# Altium footprint library Pcb_Comunes_SMD.PcbLib: 20 footprints (part 1 of 2)
Each footprint in its own frame and in the unit in brackets; x right, y up, seen from the top. Pads: shape width x height; smd on the part's side, far side on the other; paste and mask are expansions set on the pad; w line width, h text height; cw(c..) or ccw(c..) is an arc to the next point about the centre after c.
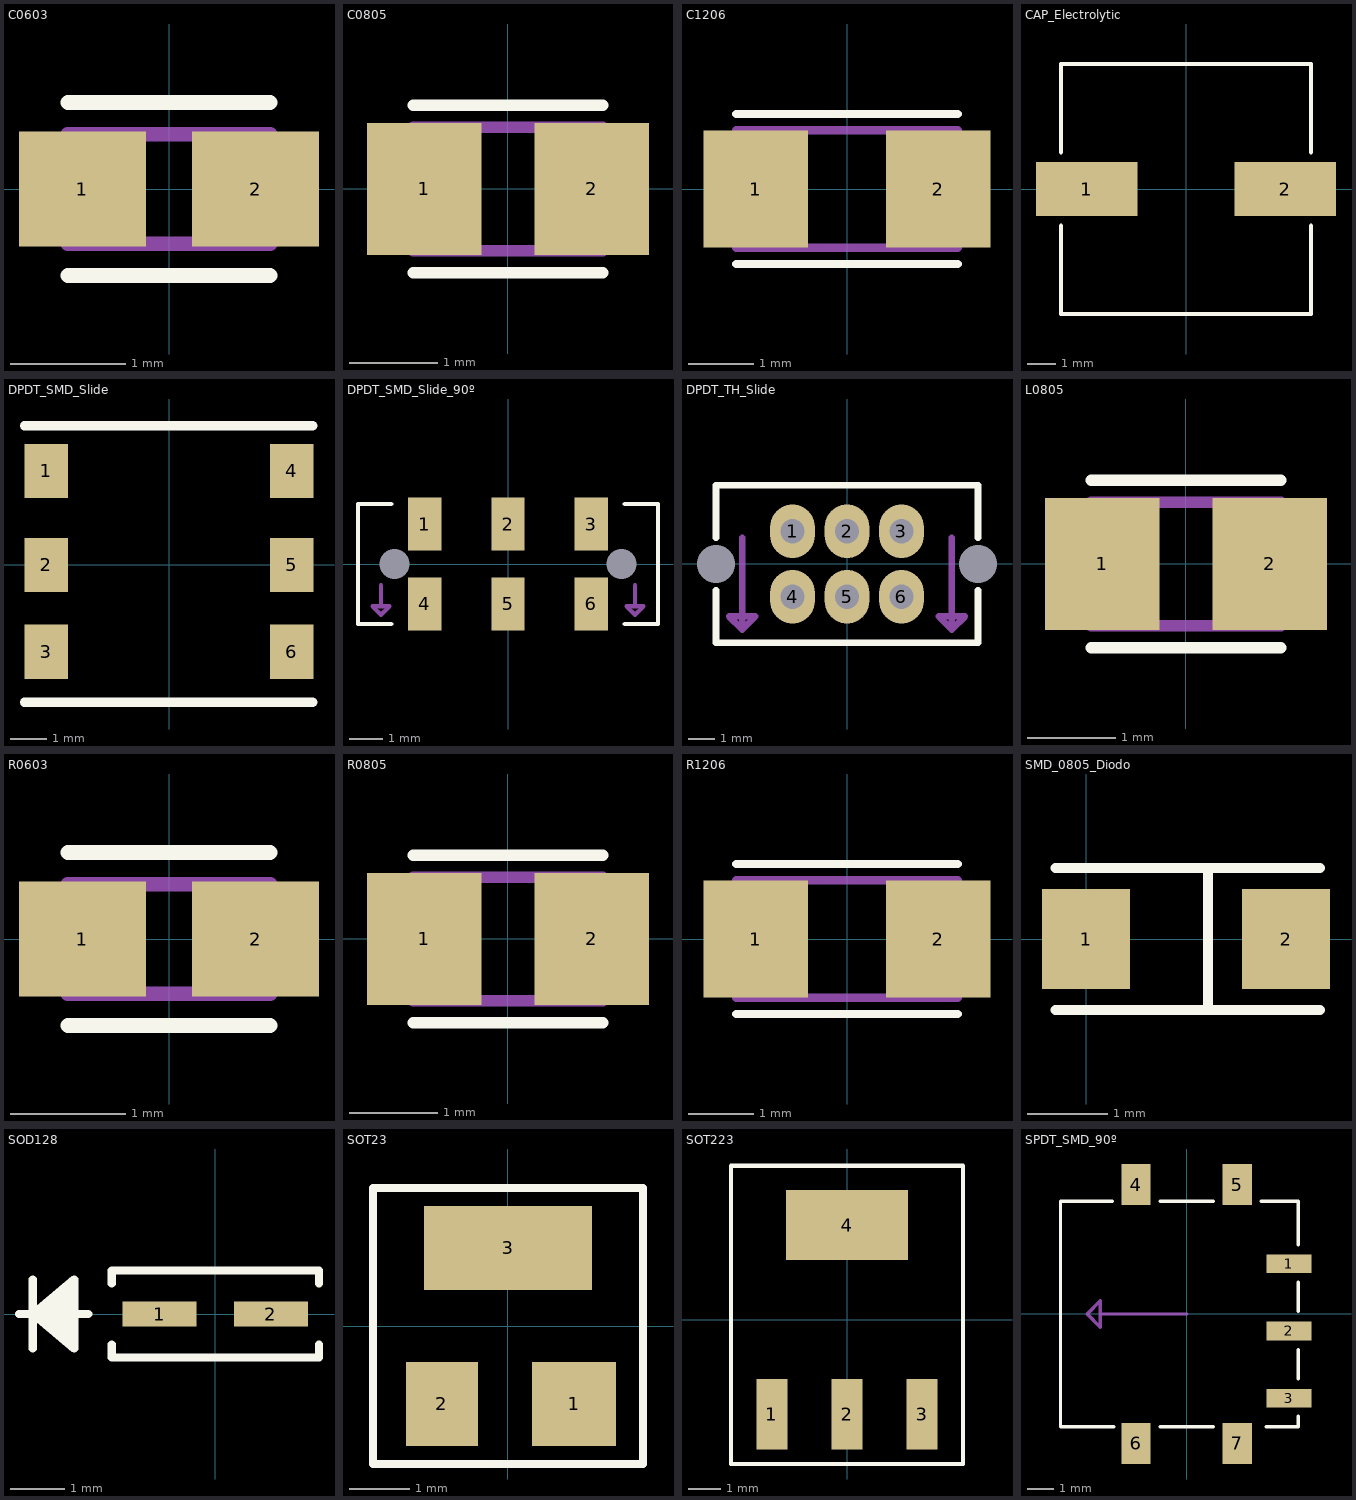
[diagram p0: the footprints below, top view; thin cyan lines are the x and y axes]

## C0603 [mm] "Capacitor SMD 0603"
height 0.85
pads (2):
  rect 1.1x1 smd: 1(-0.75,0) 2(0.75,0)
Top Overlay:
  lines w0.127: -0.875,-0.75 0.875,-0.75 ; -0.875,0.75 0.875,0.75
Mechanical 13:
  lines w0.127: -0.875,-0.475 0.875,-0.475 0.875,0.475 -0.875,0.475 -0.875,-0.475
3D body "C0603.step": height 0.83, standoff -0.03, extent -0.8,-0.43 0.8,0.43

## C0805 [mm] "Capacitor SMD 0805"
height 1.1
pads (2):
  rect 1.3x1.5 smd: 1(-0.95,0) 2(0.95,0)
Top Overlay:
  lines w0.127: -1.075,-0.95 1.075,-0.95 ; -1.075,0.95 1.075,0.95
Mechanical 13:
  lines w0.127: -1.075,0.7 -1.075,-0.7 1.075,-0.7 1.075,0.7 -1.075,0.7
3D body "C0805.step": height 0.8, standoff 0, extent -1,-0.625 1,0.625

## C1206 [mm] "Capacitor SMD 1206"
height 1.35
pads (2):
  rect 1.6x1.8 smd: 1(-1.4,0) 2(1.4,0)
Top Overlay:
  lines w0.127: -1.7,-1.15 1.7,-1.15 ; -1.7,1.15 1.7,1.15
Mechanical 13:
  lines w0.127: -1.7,-0.9 -1.7,0.9 1.7,0.9 1.7,-0.9 -1.7,-0.9
3D body "C1206.step": height 1.53, standoff -0.03, extent -1.6,-0.83 1.6,0.83

## CAP_Electrolytic [mil]
pads (2):
  rect 140x75 smd paste+0 mask+0: 1(-137,0) 2(137,0)
Top Overlay:
  lines w6: -172.5,-50.6 -172.5,-172.5 172.5,-172.5 172.5,-50.6 ; -172.5,50.6 -172.5,172.5 172.5,172.5 172.5,50.6

## DPDT_SMD_Slide [mm]
pads (6):
  rect 1.2x1.5 smd: 1(-3.4,2.6) 2(-3.4,0) 3(-3.4,-2.4) 4(3.4,2.6) 5(3.4,0) 6(3.4,-2.4)
Top Overlay:
  lines w0.254: -4,-3.8 3.975,-3.8 ; -4,3.85 3.975,3.85

## DPDT_SMD_Slide_90º [mm]
pads (8):
  rect 1x1.6 smd: 1(-2.5,1.2) 2(0,1.2) 3(2.5,1.2) 4(-2.5,-1.2) 5(0,-1.2) 6(2.5,-1.2)
  round 0 hole 0.9 unplated: 7(-3.4,0) 8(3.4,0)
Top Overlay:
  lines w0.127: -3.5,-1.8 -4.5,-1.8 -4.5,0 -4.5,1.8 -3.5,1.8 ; 3.5,-1.8 4.5,-1.8 4.5,0 4.5,1.8 3.5,1.8
Mechanical 16:
  lines w0.127: -3.81,-0.635 -3.81,-1.27 -4.064,-1.27 ; 3.81,-0.635 3.81,-1.27 3.556,-1.27 ; -4.064,-1.27 -3.556,-1.27 -3.81,-1.524 -4.064,-1.27 ; 3.556,-1.27 3.81,-1.524 4.064,-1.27 3.556,-1.27

## DPDT_TH_Slide [mm]
pads (8):
  oval 1.7x2.05 hole 0.93: 1(-2.08,1.25) 2(0,1.25) 3(2.08,1.25) 4(-2.08,-1.25) 5(0,-1.25) 6(2.08,-1.25)
  round 0 hole 1.45 unplated: 7(-5,0) 8(5,0)
Top Overlay:
  lines w0.254: -5,-1 -5,-3 5,-3 5,-1 ; -5,1 -5,3 5,3 5,1
Mechanical 16:
  lines w0.254: -4,1 -4,-2.5 ; 4,1 4,-2.5 ; -4,-2.5 -4.5,-2 -3.5,-2 -4,-2.5 ; 4,-2.5 4.5,-2 3.5,-2 4,-2.5

## L0805 [mm] "Capacitor SMD 0805"
height 1.1
pads (2):
  rect 1.3x1.5 smd: 1(-0.95,0) 2(0.95,0)
Top Overlay:
  lines w0.127: -1.075,-0.95 1.075,-0.95 ; -1.075,0.95 1.075,0.95
Mechanical 13:
  lines w0.127: -1.075,0.7 -1.075,-0.7 1.075,-0.7 1.075,0.7 -1.075,0.7
3D body "C0805.step": height 0.8, standoff 0, extent -1,-0.625 1,0.625

## R0603 [mm] "Resistor SMD 0603"
height 0.6
pads (2):
  rect 1.1x1 smd: 1(-0.75,0) 2(0.75,0)
Top Overlay:
  lines w0.127: -0.875,-0.75 0.875,-0.75 ; -0.875,0.75 0.875,0.75
Mechanical 13:
  lines w0.127: -0.875,-0.475 0.875,-0.475 0.875,0.475 -0.875,0.475 -0.875,-0.475
3D body "R0603.step": height 0.48, standoff -0.03, extent -0.8,-0.43 0.8,0.43

## R0805 [mm] "Resistor SMD 0805"
height 0.65
pads (2):
  rect 1.3x1.5 smd: 1(-0.95,0) 2(0.95,0)
Top Overlay:
  lines w0.127: -1.075,-0.95 1.075,-0.95 ; -1.075,0.95 1.075,0.95
Mechanical 13:
  lines w0.127: -1.075,0.7 -1.075,-0.7 1.075,-0.7 1.075,0.7 -1.075,0.7
3D body "R0805.step": height 0.43, standoff -0.03, extent -1,-0.63 1,0.63

## R1206 [mm] "Resistor SMD 1206"
height 0.71
pads (2):
  rect 1.6x1.8 smd: 1(-1.4,0) 2(1.4,0)
Top Overlay:
  lines w0.127: -1.7,-1.15 1.7,-1.15 ; -1.7,1.15 1.7,1.15
Mechanical 13:
  lines w0.127: -1.7,-0.9 -1.7,0.9 1.7,0.9 1.7,-0.9 -1.7,-0.9
3D body "R1206.step": height 0.53, standoff -0.03, extent -1.6,-0.83 1.6,0.83

## SMD_0805_Diodo [mm] "Diodo SMD"
pads (2):
  rect 1.1x1.25 smd: 1(0,0) 2(2.5,0)
Top Overlay:
  lines w0.127: -0.381,-0.889 2.921,-0.889 ; -0.381,0.889 2.921,0.889 ; 1.524,-0.889 1.524,0.889

## SOD128 [mil]
pads (2):
  rect 53.5x18 smd paste+0 mask+0: 1(-40.25,0) 2(40.25,0)
Top Overlay:
  lines w6: -142,0 -92,0 ; -132,-25 -132,25 ; -102,-20 -132,0 ; -102,-15 -132,0 ; -102,-10 -132,0 ; -102,-5 -132,0 ; -102,5 -132,0 ; -102,10 -132,0 ; -102,15 -132,0 ; -102,20 -132,0 ; -75,-22.1 -75,-31.5 75,-31.5 75,-22.1 ; -75,22.1 -75,31.5 75,31.5 75,22.1 ; -132,0 -102,-25 -102,25 -132,0
Mechanical 13:
  lines w1: -142,0 -92,0 ; -132,-25 -132,25 ; -102,-20 -132,0 ; -102,-15 -132,0 ; -102,-10 -132,0 ; -102,-5 -132,0 ; -102,5 -132,0 ; -102,10 -132,0 ; -102,15 -132,0 ; -102,20 -132,0 ; -132,0 -102,-25 -102,25 -132,0
3D body: height 20, standoff 0, extent -45,-30 -35,30
3D body: height 10, standoff 0, extent -75,-30 75,30

## SOT23 [mm]
pads (3):
  rect 1.4x1.4 smd: 1(1.1,-1.3)
  rect 1.2x1.4 smd: 2(-1.1,-1.3)
  rect 2.8x1.4 smd: 3(0,1.3)
Top Overlay:
  lines w0.127: -2.25,-2.3 2.25,-2.3 2.25,2.3 -2.25,2.3 -2.25,-2.3
3D body: height 0.3, standoff 0, extent -1.2,-1.8 -0.7,-1.3
3D body: height 1.4, standoff 0, extent -1.5,-0.7 1.5,0.7
3D body: height 1.1, standoff 0.8, extent -1.2,-1.024 -0.7,-0.676
3D body: height 1.1, standoff 0, extent -1.2,-1.3 -0.7,-1.024
3D body: height 1.1, standoff 0, extent 0.7,-1.3 1.2,-1.024
3D body: height 1.1, standoff 0.8, extent 0.7,-1.024 1.2,-0.676
3D body: height 0.3, standoff 0, extent 0.7,-1.8 1.2,-1.3
3D body: height 1.1, standoff 0, extent -0.25,1.024 0.25,1.3
3D body: height 1.1, standoff 0.8, extent -0.25,0.676 0.25,1.024
3D body: height 0.3, standoff 0, extent -0.25,1.3 0.25,1.8

## SOT223 [mm]
pads (4):
  rect 0.95x2.15 smd: 1(-2.3,-2.9) 2(0,-2.9) 3(2.3,-2.9)
  rect 3.75x2.15 smd: 4(0,2.9)
Top Overlay:
  lines w0.127: -3.556,-4.424 3.556,-4.424 3.556,4.72 -3.556,4.72 -3.556,-4.424
3D body: height 0.3, standoff 0, extent 1.905,-3.175 2.667,-1.905
3D body: height 1.1, standoff 0.8, extent 1.905,-1.524 2.667,-1.016
3D body: height 1.1, standoff 0, extent 1.905,-1.905 2.667,-1.524
3D body: height 0.3, standoff 0, extent -0.381,-3.175 0.381,-1.905
3D body: height 1.1, standoff 0.8, extent -0.381,-1.524 0.381,-1.016
3D body: height 1.1, standoff 0, extent -0.381,-1.905 0.381,-1.524
3D body: height 1.1, standoff 0, extent -2.667,-1.905 -1.905,-1.524
3D body: height 1.1, standoff 0.8, extent -2.667,-1.524 -1.905,-1.016
3D body: height 1.7, standoff 0, extent -3.048,-1.016 3.048,1.829
3D body: height 0.3, standoff 0, extent -2.667,-3.175 -1.905,-1.905
3D body: height 0.3, standoff 0, extent -1.778,1.829 1.778,3.683

## SPDT_SMD_90º [mm] "TAC SWITCH de 4"
pads (7):
  rect 1.7x0.7 smd: 1(3.85,1.9) 2(3.85,-0.64) 3(3.85,-3.18)
  rect 1.1x1.55 smd: 4(-1.905,4.875) 5(1.905,4.875) 6(-1.905,-4.875) 7(1.905,-4.875)
Top Overlay:
  lines w0.127: -2.8,4.25 -4.75,4.25 -4.75,-4.25 -2.75,-4.25 ; -1,-4.25 1,-4.25 ; -1,4.25 1,4.25 ; 2.8,4.25 4.2,4.25 4.2,2.6 ; 3,-4.25 4.2,-4.25 4.2,-3.85 ; 4.2,-2.45 4.2,-1.35 ; 4.2,0.1 4.2,1.2
Mechanical 16:
  lines w0.127: 0,0 -3.25,0 -3.25,0.5 ; -3.25,0.5 -3.75,0 -3.25,-0.5 -3.25,0.5